# EAGLE library part EDIP240-7 (library oli)
EA eDIP240-7 LCD-Display mit Touchpad Hersteller: Electronic Assembly http://www.lcd-module.de/ TECHNISCHE DATEN LCD-GRAFIKDISPLAY MIT DIVERSEN GRAFIKFUNKTIONEN 8 EINGEBAUTE FONTS FONT ZOOM VON ca. 2mm BIS ZU ca. 50mm, auch um 90° GEDREHT 3 VERSCHIEDENE INTERFACE ONBOARD: RS-232, I²C-BUS ODER SPI-BUS 240x128 PIXEL MIT LED-BELEUCHTUNG BLAU NEGATIV ODER SCHWARZ-WEISS POSITIV, FSTN-TECHNIK VERSORGUNG +5V@ typ. 75mA / 210mA (OHNE / MIT LED BELEUCHTUNG) PIXELGENAUE POSITIONIERUNG BEI ALLEN FUNKTIONEN GERADE, PUNKT, BEREICH, UND/ODER/EXOR, BARGRAPH... CLIPBOARD FUNKTIONEN, PULL-DOWN MENÜS BIS ZU 256 BILDER INTERN SPEICHERBAR BIS ZU 256 MAKROS PROGRAMMIERBAR (32kB EEPROM ONBOARD) TEXT UND GRAFIK MISCHEN, BLINKATTRIBUTE: EIN/AUS/ INVERS BLINKEN BELEUCHTUNG PER SOFTWARE REGELBAR ANALOGES TOUCH PANEL: VARIABLES RASTER FREI DEFINIERBARE TASTEN UND SCHALTER BESTELLBEZEICHNUNG 240x128 DOTS, WEISSE LED-BELEUCHTUNG, BLAU NEGATIV EA eDIP240B-7LW WIE VOR, JEDOCH MIT TOUCH PANEL EA eDIP240B-7LWTP 240x128 DOTS, WEISSE LED-BELEUCHTUNG, POSITIV MODE, FSTN EA eDIP240J-7LW WIE VOR, JEDOCH MIT TOUCH PANEL EA eDIP240J-7LWTP PROGRAMMER FÜR USB INKL. KABEL, CD FÜR WIN98/ME/2000/XP EA 9777-1USB STARTERKIT, (1x EA eDIP240B-7LWTP + USB-PROGRAMMER + CD) EA START-eDIP240 BUCHSENLEISTE 1x20, 4.5mm HOCH (1 STÜCK) EA B254-20 EINBLAUBLENDE SCHWARZ, ELOX. ALUMINIUM EA 0FP241-7SW
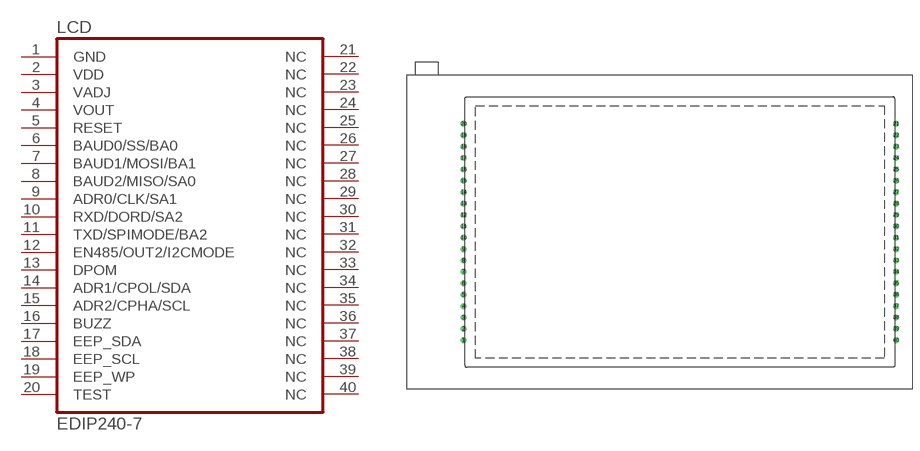
[diagram p8: symbol with the pads of EDIP240-7; footprint EDIP240-7]

Designator prefix LCD

## EDIP240-7  [EDIP240-7]
1  GND  pwr
2  VDD  pwr
3  VADJ  pwr
4  VOUT  pwr
5  RESET  pas
6  BAUD0/SS/BA0  in
7  BAUD1/MOSI/BA1  in
8  BAUD2/MISO/SA0
9  ADR0/CLK/SA1  in
10  RXD/DORD/SA2  in
11  TXD/SPIMODE/BA2
12  EN485/OUT2/I2CMODE
13  DPOM  in
14  ADR1/CPOL/SDA
15  ADR2/CPHA/SCL  in
16  BUZZ  out
17  EEP_SDA
18  EEP_SCL  out
19  EEP_WP  in
20  TEST
21  NC  nc
22  NC  nc
23  NC  nc
24  NC  nc
25  NC  nc
26  NC  nc
27  NC  nc
28  NC  nc
29  NC  nc
30  NC  nc
31  NC  nc
32  NC  nc
33  NC  nc
34  NC  nc
35  NC  nc
36  NC  nc
37  NC  nc
38  NC  nc
39  NC  nc
40  NC  nc

## Footprint EDIP240-7 (pad centres in mm)
drill 0.8: 1 -48.26,-24.13; 2 -48.26,-21.59; 3 -48.26,-19.05; 4 -48.26,-16.51; 5 -48.26,-13.97; 6 -48.26,-11.43; 7 -48.26,-8.89; 8 -48.26,-6.35; 9 -48.26,-3.81; 10 -48.26,-1.27; 11 -48.26,1.27; 12 -48.26,3.81; 13 -48.26,6.35; 14 -48.26,8.89; 15 -48.26,11.43; 16 -48.26,13.97; 17 -48.26,16.51; 18 -48.26,19.05; 19 -48.26,21.59; 20 -48.26,24.13; 21 48.26,24.13; 22 48.26,21.59; 23 48.26,19.05; 24 48.26,16.51; 25 48.26,13.97; 26 48.26,11.43; 27 48.26,8.89; 28 48.26,6.35; 29 48.26,3.81; 30 48.26,1.27; 31 48.26,-1.27; 32 48.26,-3.81; 33 48.26,-6.35; 34 48.26,-8.89; 35 48.26,-11.43; 36 48.26,-13.97; 37 48.26,-16.51; 38 48.26,-19.05; 39 48.26,-21.59; 40 48.26,-24.13